# Altium footprint library MDM-31.PcbLib: 1 footprints
Each footprint in its own frame and in the unit in brackets; x right, y up, seen from the top. Pads: shape width x height; smd on the part's side, far side on the other; paste and mask are expansions set on the pad; w line width, h text height; cw(c..) or ccw(c..) is an arc to the next point about the centre after c.
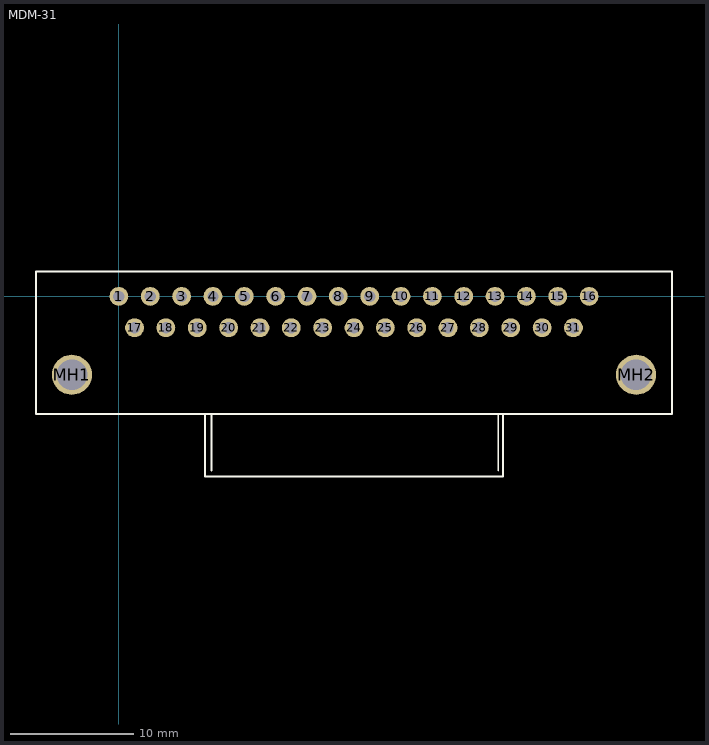
[diagram p0: the footprint, top view; thin cyan lines are the x and y axes]

## MDM-31 [mil]
pads (33):
  round 60 hole 36: 1(0,0) 2(100,0) 3(200,0) 4(300,0) 5(400,0) 6(500,0) 7(600,0) 8(700,0) 9(800,0) 10(900,0) 11(1000,0) 12(1100,0) 13(1200,0) 14(1300,0) 15(1400,0) 16(1500,0) 17(50,-100) 18(150,-100) 19(250,-100) 20(350,-100) 21(450,-100) 22(550,-100) 23(650,-100) 24(750,-100) 25(850,-100) 26(950,-100) 27(1050,-100) 28(1150,-100) 29(1250,-100) 30(1350,-100) 31(1450,-100)
  round 128 hole 98.43: MH1(-150,-250) MH2(1650,-250)
Top Overlay:
  lines w6: 275,-375 275,-575 1225,-575 1225,-375 ; 295,-555 295,-375 ; 1210,-555 1210,-375 ; -265,-375 -265,80 1765,80 1765,-375 -265,-375
3D body "C115366_9014C_3.sldprt": height 340.36, standoff -195.08, extent -266.73,-562.52 1766.74,80